# Altium integrated library basic01_resistors.IntLib: 78 symbols
Pins are listed as number, name and electrical type; pins without a type are passive.

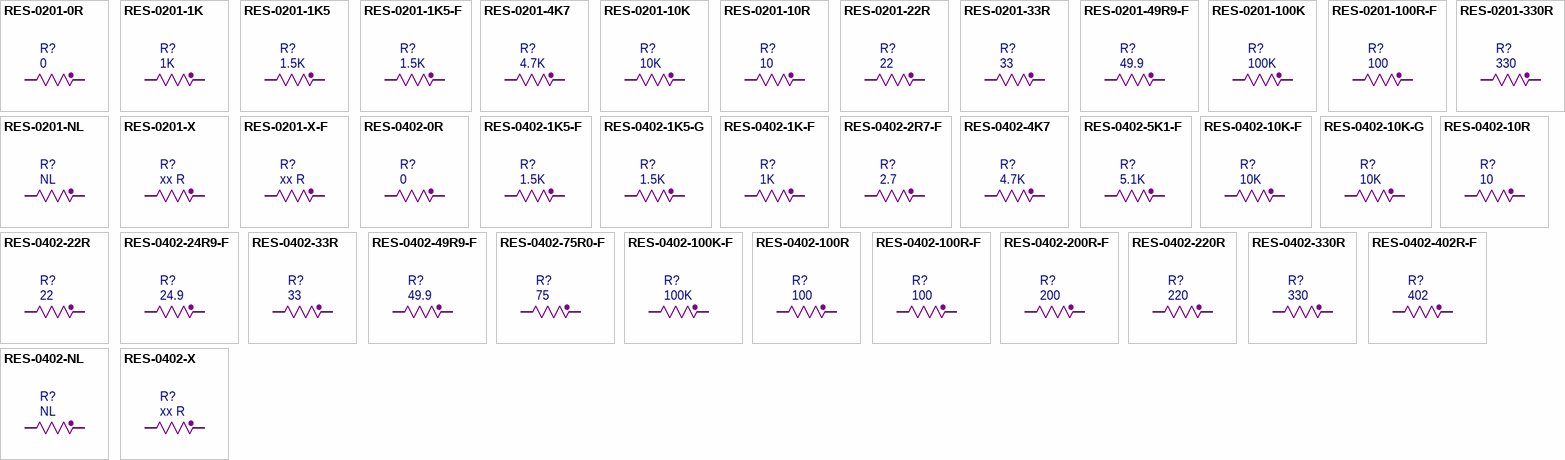
[diagram p0: symbols RES-0201-0R to RES-0402-X]

## RES-0201-0R
designator R?, comment 0
RES, 0R, 0.5A, 0201, PbF; VendorPartNumber: RK73Z1HTTC; LocalPartNumber: RES-0201-0R; Vendor: KOA Speer; EngineerName: Shyu Lee (Xu Li); EngineerEmail: shyu.lee@gmail.com; shyu.lee@ettus.com; Value: 0; Publisher: MiniLab; Version: 1.0; VersionDate: 01-10-2014
footprint 0201-RES-Z (Resistor, 0201, 0R)
simulation model RES (Ideal Resistor)
pins: 1, 2

## RES-0201-1K
designator R?, comment 1K
RES, 1K, 5%, 1/20W, 0201, PbF; VendorPartNumber: RK73B1HTTC102J; LocalPartNumber: RES-0201-1K; Vendor: KOA Speer; EngineerName: Shyu Lee (Xu Li); EngineerEmail: shyu.lee@gmail.com; shyu.lee@ettus.com; Value: 1K; Publisher: MiniLab; Version: 1.0; VersionDate: 01-10-2014
footprint 0201-RES (Resistor, 0201, 5% / 1%)
simulation model RES (Ideal Resistor)
pins: 1, 2

## RES-0201-1K5
designator R?, comment 1.5K
RES, 1.5K, 5%, 1/20W, 0201, PbF; VendorPartNumber: RK73B1HTTC152J; LocalPartNumber: RES-0201-1K5; Vendor: KOA Speer; EngineerName: Shyu Lee (Xu Li); EngineerEmail: shyu.lee@gmail.com; shyu.lee@ettus.com; Value: 1.5K; Publisher: MiniLab; Version: 1.0; VersionDate: 01-10-2014
footprint 0201-RES (Resistor, 0201, 5% / 1%)
simulation model RES (Ideal Resistor)
pins: 1, 2

## RES-0201-1K5-F
designator R?, comment 1.5K
RES, 1.5K, 1%, 1/20W, 0201, PbF; VendorPartNumber: RK73H1HTTC1501F; LocalPartNumber: RES-0201-1K5-F; Vendor: KOA Speer; EngineerName: Shyu Lee (Xu Li); EngineerEmail: shyu.lee@gmail.com; shyu.lee@ettus.com; Value: 1.5K; Publisher: MiniLab; Version: 1.0; VersionDate: 01-10-2014
footprint 0201-RES (Resistor, 0201, 5% / 1%)
pins: 1, 2

## RES-0201-4K7
designator R?, comment 4.7K
RES, 4.7K, 5%, 1/20W, 0201, PbF; VendorPartNumber: RK73B1HTTC472J; LocalPartNumber: RES-0201-4K7; Vendor: KOA Speer; EngineerName: Shyu Lee (Xu Li); EngineerEmail: shyu.lee@gmail.com; shyu.lee@ettus.com; Value: 4.7K; Publisher: MiniLab; Version: 1.0; VersionDate: 01-10-2014
footprint 0201-RES (Resistor, 0201, 5% / 1%)
simulation model RES (Ideal Resistor)
pins: 1, 2

## RES-0201-10K
designator R?, comment 10K
RES, 10K, 5%, 1/20W, 0201, PbF; VendorPartNumber: RK73B1HTTC103J; LocalPartNumber: RES-0201-10K; Vendor: KOA Speer; EngineerName: Shyu Lee (Xu Li); EngineerEmail: shyu.lee@gmail.com; shyu.lee@ettus.com; Value: 10K; Publisher: MiniLab; Version: 1.0; VersionDate: 01-10-2014
footprint 0201-RES (Resistor, 0201, 5% / 1%)
pins: 1, 2

## RES-0201-10R
designator R?, comment 10
RES, 10R, 5%, 1/20W, 0201, PbF; VendorPartNumber: RK73B1HTTC100J; LocalPartNumber: RES-0201-10R; Vendor: KOA Speer; EngineerName: Shyu Lee (Xu Li); EngineerEmail: shyu.lee@gmail.com; shyu.lee@ettus.com; Value: 10; Publisher: MiniLab; Version: 1.0; VersionDate: 01-10-2014
footprint 0201-RES (Resistor, 0201, 5% / 1%)
pins: 1, 2

## RES-0201-22R
designator R?, comment 22
RES, 22R, 5%, 1/20W, 0201, PbF; VendorPartNumber: RK73B1HTTC220J; LocalPartNumber: RES-0201-22R; Vendor: KOA Speer; EngineerName: Shyu Lee (Xu Li); EngineerEmail: shyu.lee@gmail.com; shyu.lee@ettus.com; Value: 22; Publisher: MiniLab; Version: 1.0; VersionDate: 01-10-2014
footprint 0201-RES (Resistor, 0201, 5% / 1%)
pins: 1, 2

## RES-0201-33R
designator R?, comment 33
RES, 33R, 5%, 1/20W, 0201, PbF; VendorPartNumber: RK73B1HTTC330J; LocalPartNumber: RES-0201-33R; Vendor: KOA Speer; EngineerName: Shyu Lee (Xu Li); EngineerEmail: shyu.lee@gmail.com; shyu.lee@ettus.com; Value: 33; Publisher: MiniLab; Version: 1.0; VersionDate: 01-10-2014
footprint 0201-RES (Resistor, 0201, 5% / 1%)
pins: 1, 2

## RES-0201-49R9-F
designator R?, comment 49.9
RES, 49.9R, 1%, 1/20W, 0201, PbF; VendorPartNumber: RK73H1HTTC49R9F; LocalPartNumber: RES-0201-49R9-F; Vendor: KOA Speer; EngineerName: Shyu Lee (Xu Li); EngineerEmail: shyu.lee@gmail.com; shyu.lee@ettus.com; Value: 49.9; Publisher: MiniLab; Version: 1.0; VersionDate: 01-10-2014
footprint 0201-RES (Resistor, 0201, 5% / 1%)
pins: 1, 2

## RES-0201-100K
designator R?, comment 100K
RES, 100K, 5%, 1/20W, 0201, PbF; VendorPartNumber: RK73B1HTTC104J; LocalPartNumber: RES-0201-100K; Vendor: KOA Speer; EngineerName: Shyu Lee (Xu Li); EngineerEmail: shyu.lee@gmail.com; shyu.lee@ettus.com; Value: 100K; Publisher: MiniLab; Version: 1.0; VersionDate: 01-10-2014
footprint 0201-RES (Resistor, 0201, 5% / 1%)
pins: 1, 2

## RES-0201-100R-F
designator R?, comment 100
RES, 100R, 1%, 1/20W, 0201, PbF; VendorPartNumber: RK73H1HTTC1000F; LocalPartNumber: RES-0201-100R-F; Vendor: KOA Speer; EngineerName: Shyu Lee (Xu Li); EngineerEmail: shyu.lee@gmail.com; shyu.lee@ettus.com; Value: 100; Publisher: MiniLab; Version: 1.0; VersionDate: 01-10-2014
footprint 0201-RES (Resistor, 0201, 5% / 1%)
pins: 1, 2

## RES-0201-330R
designator R?, comment 330
RES, 330R, 5%, 1/20W, 0201, PbF; VendorPartNumber: RK73B1HTTC331J; LocalPartNumber: RES-0201-330R; Vendor: KOA Speer; EngineerName: Shyu Lee (Xu Li); EngineerEmail: shyu.lee@gmail.com; shyu.lee@ettus.com; Value: 330; Publisher: MiniLab; Version: 1.0; VersionDate: 01-10-2014
footprint 0201-RES (Resistor, 0201, 5% / 1%)
pins: 1, 2

## RES-0201-NL
designator R?, comment NL
RES, NO LOAD, 0201; VendorPartNumber: (N/A); EngineerName: Shyu Lee (Xu Li); EngineerEmail: shyu.lee@gmail.com; shyu.lee@ettus.com; Vendor: (N/A); LocalPartNumber: (N/A); Value: NL; Publisher: MiniLab; Version: 1.0; VersionDate: 01-10-2014
footprint 0201-RES-NL (Resistor, 0201, NO LOAD)
pins: 1, 2

## RES-0201-X
designator R?, comment xx R
RES, xxR, 5%, 1/20W, 0201, PbF; VendorPartNumber: RK73B1HTTCxxxJ; LocalPartNumber: RES-0201-X; Vendor: KOA Speer; EngineerName: Shyu Lee (Xu Li); EngineerEmail: shyu.lee@gmail.com; shyu.lee@ettus.com; Value: xx R; Publisher: MiniLab; Version: 1.0; VersionDate: 01-10-2014
footprint 0201-RES (Resistor, 0201, 5% / 1%)
pins: 1, 2

## RES-0201-X-F
designator R?, comment xx R
RES, xxR, 1%, 1/20W, 0201, PbF; VendorPartNumber: RK73H1HTTCxxxxF; LocalPartNumber: RES-0201-X-F; Vendor: KOA Speer; EngineerName: Shyu Lee (Xu Li); EngineerEmail: shyu.lee@gmail.com; shyu.lee@ettus.com; Value: xx R; Publisher: MiniLab; Version: 1.0; VersionDate: 01-10-2014
footprint 0201-RES (Resistor, 0201, 5% / 1%)
pins: 1, 2

## RES-0402-0R
designator R?, comment 0
RES, 0R, 1A, 0402, PbF; VendorPartNumber: RK73Z1ETTP; LocalPartNumber: RES-0402-0R; Vendor: KOA Speer; EngineerName: Shyu Lee (Xu Li); EngineerEmail: shyu.lee@gmail.com; shyu.lee@ettus.com; Value: 0; Publisher: MiniLab; Version: 1.0; VersionDate: 01-10-2014
footprint 0402-RES-Z (Resistor, 0402, 0R)
pins: 1, 2

## RES-0402-1K5-F
designator R?, comment 1.5K
RES, 1.5K, 1%, 1/16W, 0402, PbF; VendorPartNumber: RK73H1ETTP1501F; LocalPartNumber: RES-0402-1K5-F; Vendor: KOA Speer; EngineerName: Shyu Lee (Xu Li); EngineerEmail: shyu.lee@gmail.com; shyu.lee@ettus.com; Value: 1.5K; Publisher: MiniLab; Version: 1.0; VersionDate: 01-10-2014
footprint 0402-RES-H (Resistor, 0402, 1%)
pins: 1, 2

## RES-0402-1K5-G
designator R?, comment 1.5K
RES, 1.5K, 1%, Temp stable, 1/16W, 0402, PbF; VendorPartNumber: RK73G1ETTP1501F; LocalPartNumber: RES-0402-1K5-F; Vendor: KOA Speer; EngineerName: Shyu Lee (Xu Li); EngineerEmail: shyu.lee@gmail.com; shyu.lee@ettus.com; Value: 1.5K; Publisher: MiniLab; Version: 1.0; VersionDate: 01-10-2014
footprint 0402-RES (Resistor, 0402, 5%)
pins: 1, 2

## RES-0402-1K-F
designator R?, comment 1K
RES, 1K, 1%, 1/16W, 0402, PbF; VendorPartNumber: RK73H1ETTP1001F; LocalPartNumber: RES-0402-1K-F; Vendor: KOA Speer; EngineerName: Shyu Lee (Xu Li); EngineerEmail: shyu.lee@gmail.com; shyu.lee@ettus.com; Value: 1K; Publisher: MiniLab; Version: 1.0; VersionDate: 01-10-2014
footprint 0402-RES-H (Resistor, 0402, 1%)
pins: 1, 2

## RES-0402-2R7-F
designator R?, comment 2.7
RES, 2.7R, 1%, 1/16W, 0402, PbF; VendorPartNumber: RK73H1ETTP2R70F; LocalPartNumber: RES-0402-2R7-F; Vendor: KOA Speer; EngineerName: Shyu Lee (Xu Li); EngineerEmail: shyu.lee@gmail.com; shyu.lee@ettus.com; Value: 2.7; Publisher: MiniLab; Version: 1.0; VersionDate: 01-10-2014
footprint 0402-RES-H (Resistor, 0402, 1%)
pins: 1, 2

## RES-0402-4K7
designator R?, comment 4.7K
RES, 4.7K, 5%, 1/16W, 0402, PbF; VendorPartNumber: RK73B1ETTP472J; LocalPartNumber: RES-0402-4K7; Vendor: KOA Speer; EngineerName: Shyu Lee (Xu Li); EngineerEmail: shyu.lee@gmail.com; shyu.lee@ettus.com; Value: 4.7K; Publisher: MiniLab; Version: 1.0; VersionDate: 01-10-2014
footprint 0402-RES (Resistor, 0402, 5%)
pins: 1, 2

## RES-0402-5K1-F
designator R?, comment 5.1K
RES, 5.1K, 1%, 1/16W, 0402, PbF; VendorPartNumber: RK73H1ETTP5101F; LocalPartNumber: RES-0402-5K1-F; Vendor: KOA Speer; EngineerName: Shyu Lee (Xu Li); EngineerEmail: shyu.lee@gmail.com; shyu.lee@ettus.com; Value: 5.1K; Publisher: MiniLab; Version: 1.0; VersionDate: 01-10-2014
footprint 0402-RES-H (Resistor, 0402, 1%)
pins: 1, 2

## RES-0402-10K-F
designator R?, comment 10K
RES, 10K, 1%, 1/16W, 0402, PbF; VendorPartNumber: RK73H1ETTP1002F; LocalPartNumber: RES-0402-10K-F; Vendor: KOA Speer; EngineerName: Shyu Lee (Xu Li); EngineerEmail: shyu.lee@gmail.com; shyu.lee@ettus.com; Value: 10K; Publisher: MiniLab; Version: 1.0; VersionDate: 01-10-2014
footprint 0402-RES-H (Resistor, 0402, 1%)
pins: 1, 2

## RES-0402-10K-G
designator R?, comment 10K
RES, 10K, 1%, Temp stable, 1/16W, 0402, PbF; VendorPartNumber: RK73G1ETTP1002F; LocalPartNumber: RES-0402-10K-F; Vendor: KOA Speer; EngineerName: Shyu Lee (Xu Li); EngineerEmail: shyu.lee@gmail.com; shyu.lee@ettus.com; Value: 10K; Publisher: MiniLab; Version: 1.0; VersionDate: 01-10-2014
footprint 0402-RES (Resistor, 0402, 5%)
pins: 1, 2

## RES-0402-10R
designator R?, comment 10
RES, 10R, 5%, 1/16W, 0402, PbF; VendorPartNumber: RK73B1ETTP100J; LocalPartNumber: RES-0402-10R; Vendor: KOA Speer; EngineerName: Shyu Lee (Xu Li); EngineerEmail: shyu.lee@gmail.com; shyu.lee@ettus.com; Value: 10; Publisher: MiniLab; Version: 1.0; VersionDate: 01-10-2014
footprint 0402-RES (Resistor, 0402, 5%)
pins: 1, 2

## RES-0402-22R
designator R?, comment 22
RES, 22R, 5%, 1/16W, 0402, PbF; VendorPartNumber: RK73B1ETTP220J; LocalPartNumber: RES-0402-22R; Vendor: KOA Speer; EngineerName: Shyu Lee (Xu Li); EngineerEmail: shyu.lee@gmail.com; shyu.lee@ettus.com; Value: 22; Publisher: MiniLab; Version: 1.0; VersionDate: 01-10-2014
footprint 0402-RES (Resistor, 0402, 5%)
pins: 1, 2

## RES-0402-24R9-F
designator R?, comment 24.9
RES, 24.9R, 1%, 1/16W, 0402, PbF; VendorPartNumber: RK73H1ETTP24R9F; LocalPartNumber: RES-0402-24R9-F; Vendor: KOA Speer; EngineerName: Shyu Lee (Xu Li); EngineerEmail: shyu.lee@gmail.com; shyu.lee@ettus.com; Value: 24.9; Publisher: MiniLab; Version: 1.0; VersionDate: 01-10-2014
footprint 0402-RES-H (Resistor, 0402, 1%)
pins: 1, 2

## RES-0402-33R
designator R?, comment 33
RES, 33R, 5%, 1/16W, 0402, PbF; VendorPartNumber: RK73B1ETTP330J; LocalPartNumber: RES-0402-33R; Vendor: KOA Speer; EngineerName: Shyu Lee (Xu Li); EngineerEmail: shyu.lee@gmail.com; shyu.lee@ettus.com; Value: 33; Publisher: MiniLab; Version: 1.0; VersionDate: 01-10-2014
footprint 0402-RES (Resistor, 0402, 5%)
pins: 1, 2

## RES-0402-49R9-F
designator R?, comment 49.9
RES, 49.9R, 1%, 1/16W, 0402, PbF; VendorPartNumber: RK73H1ETTP49R9F; LocalPartNumber: RES-0402-49R9-F; Vendor: KOA Speer; EngineerName: Shyu Lee (Xu Li); EngineerEmail: shyu.lee@gmail.com; shyu.lee@ettus.com; Value: 49.9; Publisher: MiniLab; Version: 1.0; VersionDate: 01-10-2014
footprint 0402-RES-H (Resistor, 0402, 1%)
pins: 1, 2

## RES-0402-75R0-F
designator R?, comment 75
RES, 75R, 1%, 1/16W, 0402, PbF; VendorPartNumber: RK73H1ETTP75R0F; LocalPartNumber: RES-0402-75R0-F; Vendor: KOA Speer; EngineerName: Shyu Lee (Xu Li); EngineerEmail: shyu.lee@gmail.com; shyu.lee@ettus.com; Value: 75; Publisher: MiniLab; Version: 1.0; VersionDate: 01-10-2014
footprint 0402-RES-H (Resistor, 0402, 1%)
pins: 1, 2

## RES-0402-100K-F
designator R?, comment 100K
RES, 100K, 1%, 1/16W, 0402, PbF; VendorPartNumber: RK73H1ETTP1003F; LocalPartNumber: RES-0402-100K-F; Vendor: KOA Speer; EngineerName: Shyu Lee (Xu Li); EngineerEmail: shyu.lee@gmail.com; shyu.lee@ettus.com; Value: 100K; Publisher: MiniLab; Version: 1.0; VersionDate: 01-10-2014
footprint 0402-RES-H (Resistor, 0402, 1%)
pins: 1, 2

## RES-0402-100R
designator R?, comment 100
RES, 100R, 5%, 1/16W, 0402, PbF; VendorPartNumber: RK73B1ETTP101J; LocalPartNumber: RES-0402-100R; Vendor: KOA Speer; EngineerName: Shyu Lee (Xu Li); EngineerEmail: shyu.lee@gmail.com; shyu.lee@ettus.com; Value: 100; Publisher: MiniLab; Version: 1.0; VersionDate: 01-10-2014
footprint 0402-RES (Resistor, 0402, 5%)
pins: 1, 2

## RES-0402-100R-F
designator R?, comment 100
RES, 100R, 1%, 1/16W, 0402, PbF; VendorPartNumber: RK73H1ETTP1000F; LocalPartNumber: RES-0402-100R-F; Vendor: KOA Speer; EngineerName: Shyu Lee (Xu Li); EngineerEmail: shyu.lee@gmail.com; shyu.lee@ettus.com; Value: 100; Publisher: MiniLab; Version: 1.0; VersionDate: 01-10-2014
footprint 0402-RES-H (Resistor, 0402, 1%)
pins: 1, 2

## RES-0402-200R-F
designator R?, comment 200
RES, 200R, 1%, 1/16W, 0402, PbF; VendorPartNumber: RK73H1ETTP2000F; LocalPartNumber: RES-0402-200R-F; Vendor: KOA Speer; EngineerName: Shyu Lee (Xu Li); EngineerEmail: shyu.lee@gmail.com; shyu.lee@ettus.com; Value: 200; Publisher: MiniLab; Version: 1.0; VersionDate: 01-10-2014
footprint 0402-RES-H (Resistor, 0402, 1%)
pins: 1, 2

## RES-0402-220R
designator R?, comment 220
RES, 220R, 5%, 1/16W, 0402, PbF; VendorPartNumber: RK73B1ETTP221J; LocalPartNumber: RES-0402-220R; Vendor: KOA Speer; EngineerName: Shyu Lee (Xu Li); EngineerEmail: shyu.lee@gmail.com; shyu.lee@ettus.com; Value: 220; Publisher: MiniLab; Version: 1.0; VersionDate: 01-10-2014
footprint 0402-RES (Resistor, 0402, 5%)
pins: 1, 2

## RES-0402-330R
designator R?, comment 330
RES, 330R, 5%, 1/16W, 0402, PbF; VendorPartNumber: RK73B1ETTP331J; LocalPartNumber: RES-0402-330R; Vendor: KOA Speer; EngineerName: Shyu Lee (Xu Li); EngineerEmail: shyu.lee@gmail.com; shyu.lee@ettus.com; Value: 330; Publisher: MiniLab; Version: 1.0; VersionDate: 01-10-2014
footprint 0402-RES (Resistor, 0402, 5%)
pins: 1, 2

## RES-0402-402R-F
designator R?, comment 402
RES, 402R, 1%, 1/16W, 0402, PbF; VendorPartNumber: RK73H1ETTP4020F; LocalPartNumber: RES-0402-402R-F; Vendor: KOA Speer; EngineerName: Shyu Lee (Xu Li); EngineerEmail: shyu.lee@gmail.com; shyu.lee@ettus.com; Value: 402; Publisher: MiniLab; Version: 1.0; VersionDate: 01-10-2014
footprint 0402-RES-H (Resistor, 0402, 1%)
pins: 1, 2

## RES-0402-NL
designator R?, comment NL
RES, NO LOAD, 0402; VendorPartNumber: (N/A); EngineerName: Shyu Lee (Xu Li); EngineerEmail: shyu.lee@gmail.com; shyu.lee@ettus.com; Vendor: (N/A); LocalPartNumber: (N/A); Value: NL; Publisher: MiniLab; Version: 1.0; VersionDate: 01-10-2014
footprint 0402-RES-NL (Resistor, 0402, NO LOAD)
pins: 1, 2

## RES-0402-X
designator R?, comment xx R
RES, xxR, 5%, 1/16W, 0402, PbF; VendorPartNumber: RK73B1ETTPxxxJ; LocalPartNumber: RES-0402-X; Vendor: KOA Speer; EngineerName: Shyu Lee (Xu Li); EngineerEmail: shyu.lee@gmail.com; shyu.lee@ettus.com; Value: xx R; Publisher: MiniLab; Version: 1.0; VersionDate: 01-10-2014
footprint 0402-RES (Resistor, 0402, 5%)
pins: 1, 2

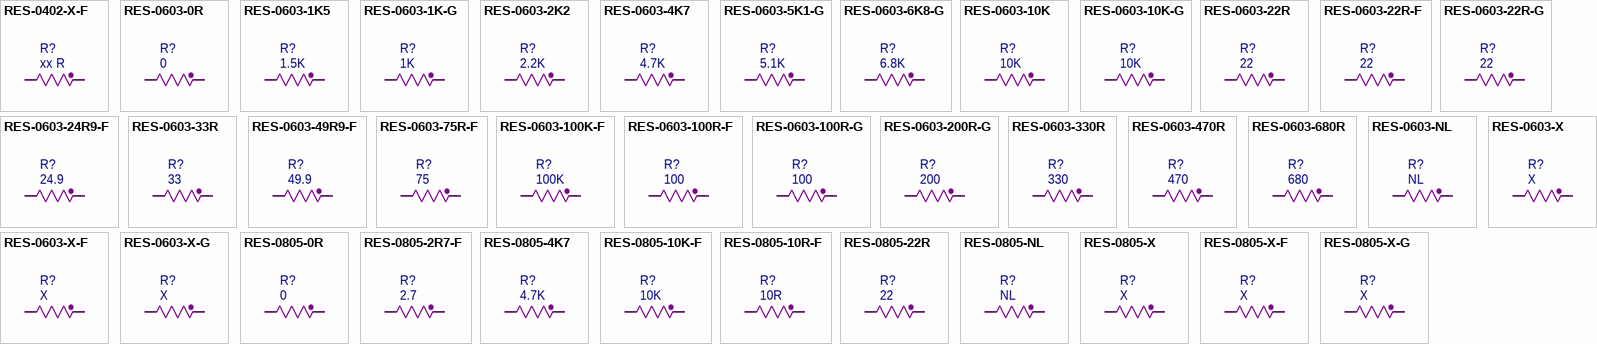
[diagram p1: symbols RES-0402-X-F to RES-0805-X-G]

## RES-0402-X-F
designator R?, comment xx R
RES, xxR, 1%, 1/16W, 0402, PbF; VendorPartNumber: RK73H1ETTPxxxxF; LocalPartNumber: RES-0402-X-F; Vendor: KOA Speer; EngineerName: Shyu Lee (Xu Li); EngineerEmail: shyu.lee@gmail.com; shyu.lee@ettus.com; Value: xx R; Publisher: MiniLab; Version: 1.0; VersionDate: 01-10-2014
footprint 0402-RES-H (Resistor, 0402, 1%)
pins: 1, 2

## RES-0603-0R
designator R?, comment 0
RES, 0R, 1A, 0603, PbF; VendorPartNumber: RK73Z1JTTD; LocalPartNumber: RES-0603-0R; Vendor: KOA Speer; EngineerName: Shyu Lee (Xu Li); EngineerEmail: shyu.lee@gmail.com; shyu.lee@ettus.com; Value: 0; Publisher: MiniLab; Version: 1.0; VersionDate: 01-10-2014
footprint 0603-RES (Resistor, 0603, 5%)
pins: 1, 2

## RES-0603-1K5
designator R?, comment 1.5K
RES, 1.5K, 5%, 1/10W, 0603, PbF; VendorPartNumber: RK73B1JTTD152J; LocalPartNumber: RES-0603-1K5; Vendor: KOA Speer; EngineerName: Shyu Lee (Xu Li); EngineerEmail: shyu.lee@gmail.com; shyu.lee@ettus.com; Value: 1.5K; Publisher: MiniLab; Version: 1.0; VersionDate: 01-10-2014
footprint 0603-RES (Resistor, 0603, 5%)
pins: 1, 2

## RES-0603-1K-G
designator R?, comment 1K
RES, 1K, 1%, Temp stable, 1/10W, 0603, PbF; VendorPartNumber: RK73G1JTTD1001F; LocalPartNumber: RES-0603-1K-G; Vendor: KOA Speer; EngineerName: Shyu Lee (Xu Li); EngineerEmail: shyu.lee@gmail.com; shyu.lee@ettus.com; Value: 1K; Publisher: MiniLab; Version: 1.0; VersionDate: 01-10-2014
footprint 0603-RES-G (Resistor, 0603, 1%, Low ppm)
pins: 1, 2

## RES-0603-2K2
designator R?, comment 2.2K
RES, 2.2K, 5%, 1/10W, 0603, PbF; VendorPartNumber: RK73B1JTTD222J; LocalPartNumber: RES-0603-2K2; Vendor: KOA Speer; EngineerName: Shyu Lee (Xu Li); EngineerEmail: shyu.lee@gmail.com; shyu.lee@ettus.com; Value: 2.2K; Publisher: MiniLab; Version: 1.0; VersionDate: 01-10-2014
footprint 0603-RES (Resistor, 0603, 5%)
pins: 1, 2

## RES-0603-4K7
designator R?, comment 4.7K
RES, 4.7K, 5%, 1/10W, 0603, PbF; VendorPartNumber: RK73B1JTTD472J; LocalPartNumber: RES-0603-4K7; Vendor: KOA Speer; EngineerName: Shyu Lee (Xu Li); EngineerEmail: shyu.lee@gmail.com; shyu.lee@ettus.com; Value: 4.7K; Publisher: MiniLab; Version: 1.0; VersionDate: 01-10-2014
footprint 0603-RES (Resistor, 0603, 5%)
pins: 1, 2

## RES-0603-5K1-G
designator R?, comment 5.1K
RES, 5.1K, 1%, Temp stable, 1/10W, 0603, PbF; VendorPartNumber: RK73G1JTTD5101F; LocalPartNumber: RES-0603-5K1-G; Vendor: KOA Speer; EngineerName: Shyu Lee (Xu Li); EngineerEmail: shyu.lee@gmail.com; shyu.lee@ettus.com; Value: 5.1K; Publisher: MiniLab; Version: 1.0; VersionDate: 01-10-2014
footprint 0603-RES-G (Resistor, 0603, 1%, Low ppm)
pins: 1, 2

## RES-0603-6K8-G
designator R?, comment 6.8K
RES, 6.8K, 1%, Temp stable, 1/10W, 0603, PbF; VendorPartNumber: RK73G1JTTD6801F; LocalPartNumber: RES-0603-6K8-G; Vendor: KOA Speer; EngineerName: Shyu Lee (Xu Li); EngineerEmail: shyu.lee@gmail.com; shyu.lee@ettus.com; Value: 6.8K; Publisher: MiniLab; Version: 1.0; VersionDate: 01-10-2014
footprint 0603-RES-G (Resistor, 0603, 1%, Low ppm)
pins: 1, 2

## RES-0603-10K
designator R?, comment 10K
RES, 10K, 1%, 1/10W, 0603, PbF; VendorPartNumber: RK73H1JTTD1002F; LocalPartNumber: RES-0603-10K; Vendor: KOA Speer; EngineerName: Shyu Lee (Xu Li); EngineerEmail: shyu.lee@gmail.com; shyu.lee@ettus.com; Value: 10K; Publisher: MiniLab; Version: 1.0; VersionDate: 01-10-2014
footprint 0603-RES-H (Resistor, 0603, 1%)
pins: 1, 2

## RES-0603-10K-G
designator R?, comment 10K
RES, 10K, 1%, Temp stable, 1/10W, 0603, PbF; VendorPartNumber: RK73G1JTTD1002F; LocalPartNumber: RES-0603-10K-G; Vendor: KOA Speer; EngineerName: Shyu Lee (Xu Li); EngineerEmail: shyu.lee@gmail.com; shyu.lee@ettus.com; Value: 10K; Publisher: MiniLab; Version: 1.0; VersionDate: 01-10-2014
footprint 0603-RES-G (Resistor, 0603, 1%, Low ppm)
pins: 1, 2

## RES-0603-22R
designator R?, comment 22
RES, 22R, 5%, 1/10W, 0603, PbF; VendorPartNumber: RK73B1JTTD220J; LocalPartNumber: RES-0603-22R; Vendor: KOA Speer; EngineerName: Shyu Lee (Xu Li); EngineerEmail: shyu.lee@gmail.com; shyu.lee@ettus.com; Value: 22; Publisher: MiniLab; Version: 1.0; VersionDate: 01-10-2014
footprint 0603-RES (Resistor, 0603, 5%)
pins: 1, 2

## RES-0603-22R-F
designator R?, comment 22
RES, 22R, 1%, 1/10W, 0603, PbF; VendorPartNumber: RK73H1JTTD22R0F; LocalPartNumber: RES-0603-22R-F; Vendor: KOA Speer; EngineerName: Shyu Lee (Xu Li); EngineerEmail: shyu.lee@gmail.com; shyu.lee@ettus.com; Value: 22; Publisher: MiniLab; Version: 1.0; VersionDate: 01-10-2014
footprint 0603-RES-H (Resistor, 0603, 1%)
pins: 1, 2

## RES-0603-22R-G
designator R?, comment 22
RES, 22R, 1%, Temp stable, 1/10W, 0603, PbF; VendorPartNumber: RK73G1JTTD22R0F; LocalPartNumber: RES-0603-22R-G; Vendor: KOA Speer; EngineerName: Shyu Lee (Xu Li); EngineerEmail: shyu.lee@gmail.com; shyu.lee@ettus.com; Value: 22; Publisher: MiniLab; Version: 1.0; VersionDate: 01-10-2014
footprint 0603-RES-H (Resistor, 0603, 1%)
pins: 1, 2

## RES-0603-24R9-F
designator R?, comment 24.9
RES, 24.9R, 1%, 1/10W, 0603, PbF; VendorPartNumber: RK73H1JTTD24R9F; LocalPartNumber: RES-0603-24R9-F; Vendor: KOA Speer; EngineerName: Shyu Lee (Xu Li); EngineerEmail: shyu.lee@gmail.com; shyu.lee@ettus.com; Value: 24.9; Publisher: MiniLab; Version: 1.0; VersionDate: 01-10-2014
footprint 0603-RES-H (Resistor, 0603, 1%)
pins: 1, 2

## RES-0603-33R
designator R?, comment 33
RES, 33R, 5%, 1/10W, 0603, PbF; VendorPartNumber: RK73B1JTTD330J; LocalPartNumber: RES-0603-33R; Vendor: KOA Speer; EngineerName: Shyu Lee (Xu Li); EngineerEmail: shyu.lee@gmail.com; shyu.lee@ettus.com; Value: 33; Publisher: MiniLab; Version: 1.0; VersionDate: 01-10-2014
footprint 0603-RES (Resistor, 0603, 5%)
pins: 1, 2

## RES-0603-49R9-F
designator R?, comment 49.9
RES, 49R9, 1%, 1/10W, 0603, PbF; VendorPartNumber: RK73H1JTTD49R9F; LocalPartNumber: RES-0603-49R9-F; Vendor: KOA Speer; EngineerName: Shyu Lee (Xu Li); EngineerEmail: shyu.lee@gmail.com; shyu.lee@ettus.com; Value: 49.9; Publisher: MiniLab; Version: 1.0; VersionDate: 01-10-2014
footprint 0603-RES-H (Resistor, 0603, 1%)
pins: 1, 2

## RES-0603-75R-F
designator R?, comment 75
RES, 75R, 1%, 1/10W, 0603, PbF; VendorPartNumber: RK73H1JTTD75R0F; LocalPartNumber: RES-0603-75R-F; Vendor: KOA Speer; EngineerName: Shyu Lee (Xu Li); EngineerEmail: shyu.lee@gmail.com; shyu.lee@ettus.com; Value: 75; Publisher: MiniLab; Version: 1.0; VersionDate: 01-10-2014
footprint 0603-RES-H (Resistor, 0603, 1%)
pins: 1, 2

## RES-0603-100K-F
designator R?, comment 100K
RES, 100K, 1%, 1/10W, 0603, PbF; VendorPartNumber: RK73H1JTTD1003F; LocalPartNumber: RES-0603-100K-F; Vendor: KOA Speer; EngineerName: Shyu Lee (Xu Li); EngineerEmail: shyu.lee@gmail.com; shyu.lee@ettus.com; Value: 100K; Publisher: MiniLab; Version: 1.0; VersionDate: 01-10-2014
footprint 0603-RES-H (Resistor, 0603, 1%)
pins: 1, 2

## RES-0603-100R-F
designator R?, comment 100
RES, 100R, 1%, 1/10W, 0603, PbF; VendorPartNumber: RK73H1JTTD1000F; LocalPartNumber: RES-0603-100R-F; Vendor: KOA Speer; EngineerName: Shyu Lee (Xu Li); EngineerEmail: shyu.lee@gmail.com; shyu.lee@ettus.com; Value: 100; Publisher: MiniLab; Version: 1.0; VersionDate: 01-10-2014
footprint 0603-RES-H (Resistor, 0603, 1%)
pins: 1, 2

## RES-0603-100R-G
designator R?, comment 100
RES, 100R, 1%, Temp stable, 1/10W, 0603, PbF; VendorPartNumber: RK73G1JTTD1000F; LocalPartNumber: RES-0603-100R-G; Vendor: KOA Speer; EngineerName: Shyu Lee (Xu Li); EngineerEmail: shyu.lee@gmail.com; shyu.lee@ettus.com; Value: 100; Publisher: MiniLab; Version: 1.0; VersionDate: 01-10-2014
footprint 0603-RES-G (Resistor, 0603, 1%, Low ppm)
pins: 1, 2

## RES-0603-200R-G
designator R?, comment 200
RES, 200R, 1%, Temp stable, 1/10W, 0603, PbF; VendorPartNumber: RK73G1JTTD2000F; LocalPartNumber: RES-0603-200R-G; Vendor: KOA Speer; EngineerName: Shyu Lee (Xu Li); EngineerEmail: shyu.lee@gmail.com; shyu.lee@ettus.com; Value: 200; Publisher: MiniLab; Version: 1.0; VersionDate: 01-10-2014
footprint 0603-RES-G (Resistor, 0603, 1%, Low ppm)
pins: 1, 2

## RES-0603-330R
designator R?, comment 330
RES, 330R, 5%, 1/10W, 0603, PbF; VendorPartNumber: RK73B1JTTD331J; LocalPartNumber: RES-0603-330R; Vendor: KOA Speer; EngineerName: Shyu Lee (Xu Li); EngineerEmail: shyu.lee@gmail.com; shyu.lee@ettus.com; Value: 330; Publisher: MiniLab; Version: 1.0; VersionDate: 01-10-2014
footprint 0603-RES (Resistor, 0603, 5%)
pins: 1, 2

## RES-0603-470R
designator R?, comment 470
RES, 470R, 5%, 1/10W, 0603, PbF; VendorPartNumber: RK73B1JTTD471J; LocalPartNumber: RES-0603-470R; Vendor: KOA Speer; EngineerName: Shyu Lee (Xu Li); EngineerEmail: shyu.lee@gmail.com; shyu.lee@ettus.com; Value: 470; Publisher: MiniLab; Version: 1.0; VersionDate: 01-10-2014
footprint 0603-RES (Resistor, 0603, 5%)
pins: 1, 2

## RES-0603-680R
designator R?, comment 680
RES, 680R, 5%, 1/10W, 0603, PbF; VendorPartNumber: RK73B1JTTD681J; LocalPartNumber: RES-0603-680R; Vendor: KOA Speer; EngineerName: Shyu Lee (Xu Li); EngineerEmail: shyu.lee@gmail.com; shyu.lee@ettus.com; Value: 680; Publisher: MiniLab; Version: 1.0; VersionDate: 01-10-2014
footprint 0603-RES (Resistor, 0603, 5%)
pins: 1, 2

## RES-0603-NL
designator R?, comment NL
RES, NO LOAD, 0603; VendorPartNumber: (N/A); EngineerName: Shyu Lee (Xu Li); EngineerEmail: shyu.lee@gmail.com; shyu.lee@ettus.com; Vendor: (N/A); LocalPartNumber: (N/A); Value: NL; Publisher: MiniLab; Version: 1.0; VersionDate: 01-10-2014
footprint 0603-RES-NL (Resistor, 0603, NO LOAD)
pins: 1, 2

## RES-0603-X
designator R?, comment X
RES, xxR, 5%, 1/10W, 0603, PbF; VendorPartNumber: RK73B1JTTDxxxJ; LocalPartNumber: RES-0603-X; Vendor: KOA Speer; EngineerName: Shyu Lee (Xu Li); EngineerEmail: shyu.lee@gmail.com; shyu.lee@ettus.com; Value: X; Publisher: MiniLab; Version: 1.0; VersionDate: 01-10-2014
footprint 0603-RES (Resistor, 0603, 5%)
pins: 1, 2

## RES-0603-X-F
designator R?, comment X
RES, xxR, 1%, 1/10W, 0603, PbF; VendorPartNumber: RK73H1JTTDxxxxF; LocalPartNumber: RES-0603-X-F; Vendor: KOA Speer; EngineerName: Shyu Lee (Xu Li); EngineerEmail: shyu.lee@gmail.com; shyu.lee@ettus.com; Value: X; Publisher: MiniLab; Version: 1.0; VersionDate: 01-10-2014
footprint 0603-RES-H (Resistor, 0603, 1%)
pins: 1, 2

## RES-0603-X-G
designator R?, comment X
RES, xxR, 1%, Temp stable, 1/10W, 0603, PbF; VendorPartNumber: RK73G1JTTDxxxxF; LocalPartNumber: RES-0603-X-G; Vendor: KOA Speer; EngineerName: Shyu Lee (Xu Li); EngineerEmail: shyu.lee@gmail.com; shyu.lee@ettus.com; Value: X; Publisher: MiniLab; Version: 1.0; VersionDate: 01-10-2014
footprint 0603-RES-G (Resistor, 0603, 1%, Low ppm)
pins: 1, 2

## RES-0805-0R
designator R?, comment 0
RES, 0R, 2A, 0603, PbF; VendorPartNumber: RK73Z2ATTD; LocalPartNumber: RES-0805-0R; Vendor: KOA Speer; EngineerName: Shyu Lee (Xu Li); EngineerEmail: shyu.lee@gmail.com; shyu.lee@ettus.com; Value: 0; Publisher: MiniLab; Version: 1.0; VersionDate: 01-10-2014
footprint 0805-RES (Resistor, 0805, 5%)
simulation model RES (Ideal Resistor)
pins: 1, 2

## RES-0805-2R7-F
designator R?, comment 2.7
RES, 2.7R, 1%, 1/8W, 0805, PbF; VendorPartNumber: RK73H2ATTD2R70F; LocalPartNumber: RES-0805-2R7-F; Vendor: KOA Speer; EngineerName: Shyu Lee (Xu Li); EngineerEmail: shyu.lee@gmail.com; shyu.lee@ettus.com; Value: 2.7; Publisher: MiniLab; Version: 1.0; VersionDate: 01-10-2014
footprint 0805-RES-H (Resistor, 0805, 1%)
pins: 1, 2

## RES-0805-4K7
designator R?, comment 4.7K
RES, 4.7K, 5%, 1/8W, 0805, PbF; VendorPartNumber: RK73B2ATTD472J; LocalPartNumber: RES-0805-4K7; Vendor: KOA Speer; EngineerName: Shyu Lee (Xu Li); EngineerEmail: shyu.lee@gmail.com; shyu.lee@ettus.com; Value: 4.7K; Publisher: MiniLab; Version: 1.0; VersionDate: 01-10-2014
footprint 0805-RES (Resistor, 0805, 5%)
pins: 1, 2

## RES-0805-10K-F
designator R?, comment 10K
RES, 10K, 1%, 1/8W, 0805, PbF; VendorPartNumber: RK73H2ATTD1002F; LocalPartNumber: RES-0805-10K-F; Vendor: KOA Speer; EngineerName: Shyu Lee (Xu Li); EngineerEmail: shyu.lee@gmail.com; shyu.lee@ettus.com; Value: 10K; Publisher: MiniLab; Version: 1.0; VersionDate: 01-10-2014
footprint 0805-RES-H (Resistor, 0805, 1%)
pins: 1, 2

## RES-0805-10R-F
designator R?, comment 10R
RES, 10R, 1%, 1/8W, 0805, PbF; VendorPartNumber: RK73H2ATTD10R0F; LocalPartNumber: RES-0805-10R-F; Vendor: KOA Speer; EngineerName: Shyu Lee (Xu Li); EngineerEmail: shyu.lee@gmail.com; shyu.lee@ettus.com; Value: 10R; Publisher: MiniLab; Version: 1.0; VersionDate: 01-10-2014
footprint 0805-RES-H (Resistor, 0805, 1%)
pins: 1, 2

## RES-0805-22R
designator R?, comment 22
RES, 22R, 5%, 1/8W, 0805, PbF; VendorPartNumber: RK73B2ATTD220J; LocalPartNumber: RES-0805-22R; Vendor: KOA Speer; EngineerName: Shyu Lee (Xu Li); EngineerEmail: shyu.lee@gmail.com; shyu.lee@ettus.com; Value: 22; Publisher: MiniLab; Version: 1.0; VersionDate: 01-10-2014
footprint 0805-RES (Resistor, 0805, 5%)
pins: 1, 2

## RES-0805-NL
designator R?, comment NL
RES, NO LOAD, 0805; VendorPartNumber: (N/A); EngineerName: Shyu Lee (Xu Li); EngineerEmail: shyu.lee@gmail.com; shyu.lee@ettus.com; Vendor: (N/A); LocalPartNumber: (N/A); Value: NL; Publisher: MiniLab; Version: 1.0; VersionDate: 01-10-2014
footprint 0805-RES-NL (Resistor, 0805, NO LOAD)
pins: 1, 2

## RES-0805-X
designator R?, comment X
RES, xxR, 5%, 1/8W, 0805, PbF; VendorPartNumber: RK73B2ATTDxxxJ; LocalPartNumber: RES-0805-X; Vendor: KOA Speer; EngineerName: Shyu Lee (Xu Li); EngineerEmail: shyu.lee@gmail.com; shyu.lee@ettus.com; Value: X; Publisher: MiniLab; Version: 1.0; VersionDate: 01-10-2014
footprint 0805-RES (Resistor, 0805, 5%)
pins: 1, 2

## RES-0805-X-F
designator R?, comment X
RES, xxR, 1%, 1/8W, 0805, PbF; VendorPartNumber: RK73H2ATTDxxxxF; LocalPartNumber: RES-0805-X-F; Vendor: KOA Speer; EngineerName: Shyu Lee (Xu Li); EngineerEmail: shyu.lee@gmail.com; shyu.lee@ettus.com; Value: X; Publisher: MiniLab; Version: 1.0; VersionDate: 01-10-2014
footprint 0805-RES-H (Resistor, 0805, 1%)
pins: 1, 2

## RES-0805-X-G
designator R?, comment X
RES, xxR, 1%, Temp stable, 1/8W, 0805, PbF; VendorPartNumber: RK73G2ATTDxxxxF; LocalPartNumber: RES-0805-X-G; Vendor: KOA Speer; EngineerName: Shyu Lee (Xu Li); EngineerEmail: shyu.lee@gmail.com; shyu.lee@ettus.com; Value: X; Publisher: MiniLab; Version: 1.0; VersionDate: 01-10-2014
footprint 0805-RES-H (Resistor, 0805, 1%)
pins: 1, 2